# EAGLE library part AK4121 (library akm)
Asynchronous Sample Rate Converter 24-Bit, 96 kHz
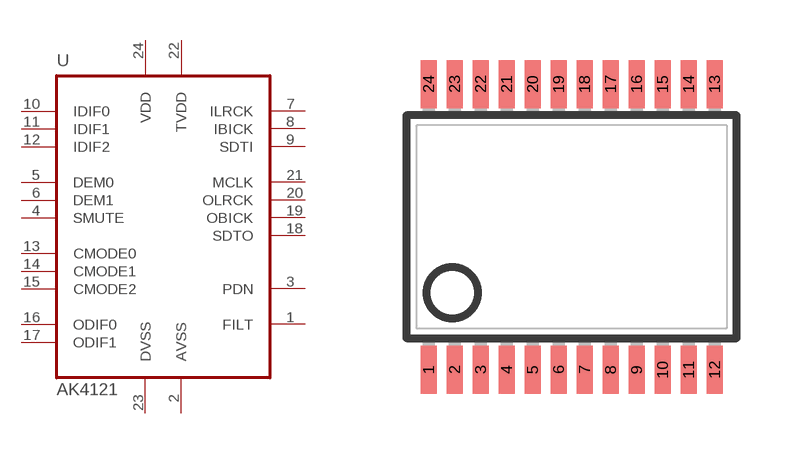
[diagram p9: symbol with the pads of VSOP24; footprint VSOP24]

Designator prefix U

## AK4121  [VSOP24]
1  FILT  pas
2  AVSS  pwr
3  PDN  in
4  SMUTE  in
5  DEM0  in
6  DEM1  in
7  ILRCK  in
8  IBICK  in
9  SDTI  in
10  IDIF0  in
11  IDIF1  in
12  IDIF2  in
13  CMODE0  in
14  CMODE1  in
15  CMODE2  in
16  ODIF0  in
17  ODIF1  in
18  SDTO  out
19  OBICK
20  OLRCK
21  MCLK  in
22  TVDD  pwr
23  DVSS  pwr
24  VDD  pwr

## Footprint VSOP24 (pad centres in mm)
VSOP24 7.8 x 5.6 mm, pitch .65 mm
smd 0.4 x 1.2: 1 -3.575,-3.57; 2 -2.925,-3.57; 3 -2.275,-3.57; 4 -1.625,-3.57; 5 -0.975,-3.57; 6 -0.325,-3.57; 7 0.325,-3.57; 8 0.975,-3.57; 9 1.625,-3.57; 10 2.275,-3.57; 11 2.925,-3.57; 12 3.575,-3.57; 13 3.575,3.57; 14 2.925,3.57; 15 2.275,3.57; 16 1.625,3.57; 17 0.975,3.57; 18 0.325,3.57; 19 -0.325,3.57; 20 -0.975,3.57; 21 -1.625,3.57; 22 -2.275,3.57; 23 -2.925,3.57; 24 -3.575,3.57